# Altium footprint library Battery.PcbLib: 1 footprints
Each footprint in its own frame and in the unit in brackets; x right, y up, seen from the top. Pads: shape width x height; smd on the part's side, far side on the other; paste and mask are expansions set on the pad; w line width, h text height; cw(c..) or ccw(c..) is an arc to the next point about the centre after c.
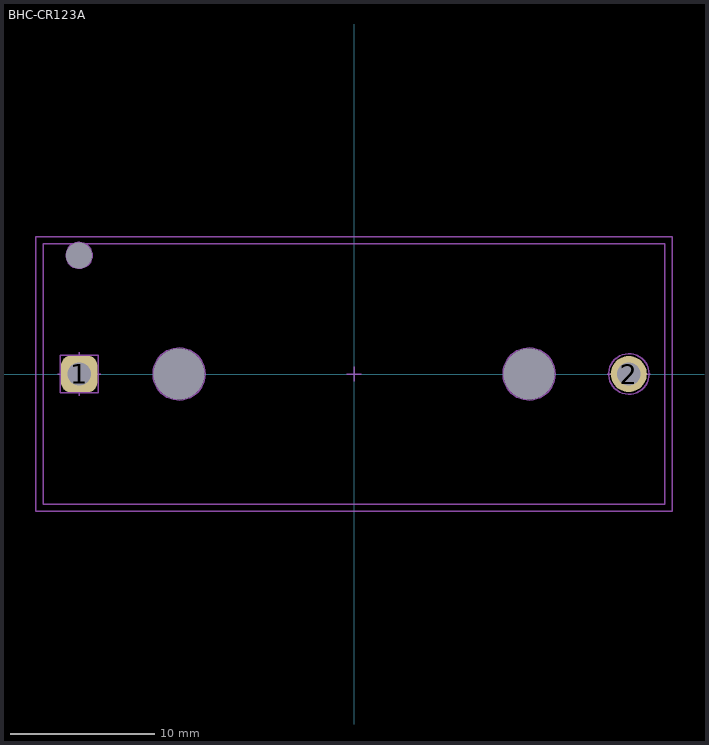
[diagram p0: the footprint, top view; thin cyan lines are the x and y axes]

## BHC-CR123A [mm]
pads (5):
  round 0 hole 1.8: 0(-19,8.2)
  round 0 hole 3.5: 0(-12.1,0) 0(12.1,0)
  rrect50% 2.5x2.5 hole 1.6: 1(-19,0)
  round 2.5 hole 1.6: 2(19,0)
Mechanical 4:
  text ".Designator" at -5,1 h2
Mechanical 13:
  lines w0.1: -20.5,0 -17.5,0 ; -19,-1.5 -19,1.5 ; 17.5,0 20.5,0 ; -21.5,-9 21.5,-9 21.5,9 -21.5,9 -21.5,-9
Mechanical 14:
  circle w0.1: c19,0 r1.4
  circle w0.1: c-19,8.2 r0.9
  circle w0.1: c12.1,0 r1.8
  circle w0.1: c-12.1,0 r1.8
  lines w0.1: -20.3,-1.3 -20.3,1.3 -17.7,1.3 -17.7,-1.3 -20.3,-1.3
Mechanical 15:
  lines w0.1: -0.5,0 0.5,0 ; 0,-0.5 0,0.5 ; -22,-9.5 22,-9.5 22,9.5 -22,9.5 -22,-9.5
3D body: height 14.1, standoff 14, extent 18,-0.5 21,0.5
3D body: height 14.1, standoff 14, extent -21,-1.5 -18,1.5
3D body: height 14, standoff 0, extent 17.5,-9 21.5,9
3D body: height 14, standoff 0, extent -21.5,-9 -17.5,9
3D body: height 1, standoff 0, extent -21.5,-9 21.5,9
3D body: height 18.48, standoff 1.52, extent -17,-8.5 17,8.433